# EAGLE library part V890-1AX1-A1 (library CONNECTORs)
1 Port RJ45Through Hole 10/100/1000 Base-T, AutoMDIX
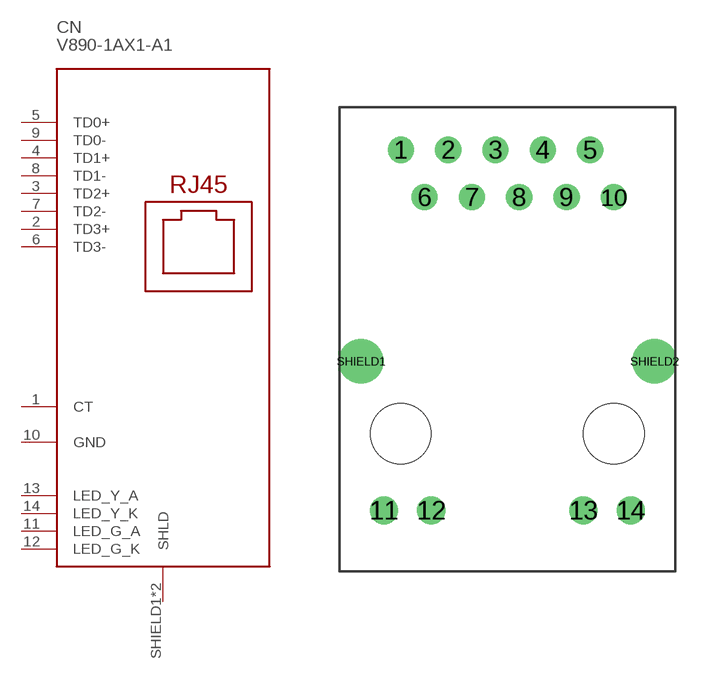
[diagram p88: symbol with the pads of V890-1AX1-A1; footprint V890-1AX1-A1]

Designator prefix CN

## V890-1AX1-A1 (DIGIKEY: 380-1120-ND; HEIGHT: 23.1; PRICE_PER: 5.48; VALUE: RJ45 MAG)  [V890-1AX1-A1]
1  CT
2  TD3+
3  TD2+
4  TD1+
5  TD0+
6  TD3-
7  TD2-
8  TD1-
9  TD0-
10  GND
11  LED_G_A
12  LED_G_K
13  LED_Y_A
14  LED_Y_K
SHIELD1  SHLD
SHIELD2  SHLD

## Footprint V890-1AX1-A1 (pad centres in mm)
drill 0.9: 1 -5.715,15.24; 2 -3.175,15.24; 3 -0.635,15.24; 4 1.905,15.24; 5 4.445,15.24; 6 -4.445,12.7; 7 -1.905,12.7; 8 0.635,12.7; 9 3.175,12.7; 10 5.715,12.7
drill 1: 11 -6.625,-4.11; 12 -4.085,-4.11; 13 4.085,-4.11; 14 6.625,-4.11
drill 1.6: SHIELD1 -7.85,3.89; SHIELD2 7.9,3.89
hole 3.25 at -5.715,0
hole 3.25 at 5.715,0